# Altium footprint library LT-T7-7-S_V.PcbLib: 1 footprints
Each footprint in its own frame and in the unit in brackets; x right, y up, seen from the top. Pads: shape width x height; smd on the part's side, far side on the other; paste and mask are expansions set on the pad; w line width, h text height; cw(c..) or ccw(c..) is an arc to the next point about the centre after c.
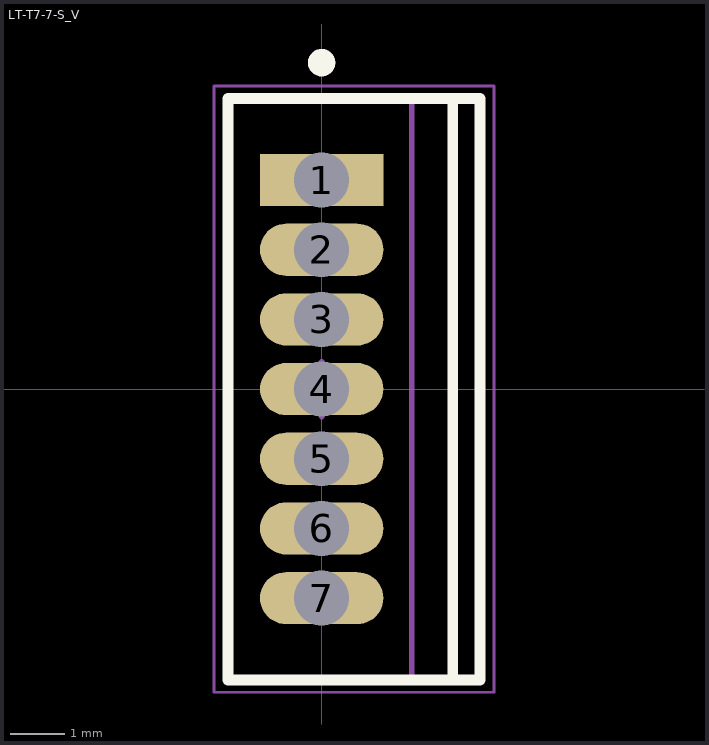
[diagram p0: the footprint, top view; thin cyan lines are the x and y axes]

## LT-T7-7-S_V [mm] "FM, 7-Leads, Body 10.55x4.6mm, Pitch 1.27mm"
height 15.75
pads (7):
  rect 2.25x0.95 hole 1: 1(0,3.81)
  oval 2.25x0.95 hole 1: 2(0,2.54) 3(0,1.27) 4(0,0) 5(0,-1.27) 6(0,-2.54) 7(0,-3.81)
Top Overlay:
  circle w0.25: c0,5.95 r0.125
  lines w0.2: 2.39,-5.3 2.39,5.3 ; -1.71,-5.3 -1.71,5.3 2.89,5.3 2.89,-5.3 -1.71,-5.3
Mechanical 13:
  lines w0.1: 1.64,-5.275 1.64,5.275 ; -1.71,-5.275 2.89,-5.275 2.89,5.275 -1.71,5.275 -1.71,-5.275
Mechanical 15:
  lines w0.05: -1.96,-5.525 3.14,-5.525 3.14,5.525 -1.96,5.525 -1.96,-5.525
  lines w0.1: -0.5,0 0.5,0 ; 0,-0.5 0,0.5
3D body: height 15.75, standoff 14.78, extent 1.64,-5.275 2.89,5.275
3D body: height 13.23, standoff 12.85, extent 1.64,-5.275 2.89,-1.925
3D body: height 13.23, standoff 12.85, extent 1.64,1.925 2.89,5.275
3D body: height 12.85, standoff 12.47, extent 1.64,-5.275 2.89,-1.925
3D body: height 12.85, standoff 12.47, extent 1.64,1.925 2.89,5.275
3D body: height 13.59, standoff 13.23, extent 1.64,-5.275 2.89,-1.888
3D body: height 13.59, standoff 13.23, extent 1.64,1.888 2.89,5.275
3D body: height 12.48, standoff 12.11, extent 1.64,-5.275 2.89,-1.888
3D body: height 12.48, standoff 12.11, extent 1.64,1.888 2.89,5.275
3D body: height 13.92, standoff 13.59, extent 1.64,-5.275 2.89,-1.778
3D body: height 13.92, standoff 13.59, extent 1.64,1.778 2.89,5.275
3D body: height 12.12, standoff 11.78, extent 1.64,-5.275 2.89,-1.778
3D body: height 12.12, standoff 11.78, extent 1.64,1.778 2.89,5.275
3D body: height 14.22, standoff 13.92, extent 1.64,-5.275 2.89,-1.601
3D body: height 14.22, standoff 13.92, extent 1.64,1.601 2.89,5.275
3D body: height 11.79, standoff 11.49, extent 1.64,-5.275 2.89,-1.601
3D body: height 11.79, standoff 11.49, extent 1.64,1.601 2.89,5.275
3D body: height 14.46, standoff 14.21, extent 1.64,-5.275 2.89,-1.361
3D body: height 14.46, standoff 14.21, extent 1.64,1.361 2.89,5.275
3D body: height 11.49, standoff 11.25, extent 1.64,-5.275 2.89,-1.361
3D body: height 11.49, standoff 11.25, extent 1.64,1.361 2.89,5.275
3D body: height 14.63, standoff 14.45, extent 1.64,-5.275 2.89,-1.069
3D body: height 14.63, standoff 14.45, extent 1.64,1.069 2.89,5.275
3D body: height 11.25, standoff 11.07, extent 1.64,-5.275 2.89,-1.069
3D body: height 11.25, standoff 11.07, extent 1.64,1.069 2.89,5.275
3D body: height 14.74, standoff 14.63, extent 1.64,-5.275 2.89,-0.737
3D body: height 14.74, standoff 14.63, extent 1.64,0.737 2.89,5.275
3D body: height 11.08, standoff 10.96, extent 1.64,-5.275 2.89,-0.737
3D body: height 11.08, standoff 10.96, extent 1.64,0.737 2.89,5.275
3D body: height 14.78, standoff 14.74, extent 1.64,-5.275 2.89,-0.376
3D body: height 14.78, standoff 14.74, extent 1.64,0.376 2.89,5.275
3D body: height 10.97, standoff 10.93, extent 1.64,-5.275 2.89,-0.376
3D body: height 10.97, standoff 10.93, extent 1.64,0.376 2.89,5.275
3D body: height 10.93, standoff 9.4, extent 1.64,-5.275 2.89,5.275
3D body: height 9.4, standoff 0, extent -1.71,-5.275 2.89,5.275
3D body: height 0, standoff -1.6, extent -0.23,-4.205 0.23,-3.415
3D body: height 0, standoff -1.6, extent -0.23,-2.935 0.23,-2.145
3D body: height 0, standoff -1.6, extent -0.23,-1.665 0.23,-0.875
3D body: height 0, standoff -1.6, extent -0.23,-0.395 0.23,0.395
3D body: height 0, standoff -1.6, extent -0.23,0.875 0.23,1.665
3D body: height 0, standoff -1.6, extent -0.23,2.145 0.23,2.935
3D body: height 0, standoff -1.6, extent -0.23,3.415 0.23,4.205